# EAGLE library part MAX16936 (library X893)
http://www.maximintegrated.com/datasheet/index.mvp/id/8073
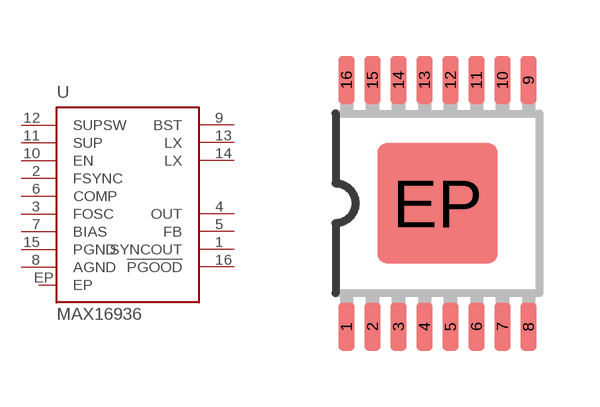
[diagram p191: symbol with the pads of TSSOP16-EP; footprint TSSOP16-EP]

Designator prefix U

## MAX16936  [TSSOP16-EP]
1  SYNCOUT
2  FSYNC  pas
3  FOSC  pas
4  OUT  pas
5  FB  pas
6  COMP  pas
7  BIAS  pas
8  AGND
9  BST  pas
10  EN  pas
11  SUP  pas
12  SUPSW  pas
13  LX  pas
14  LX  pas
15  PGND
16  !PGOOD
EP  EP  pas

## Footprint TSSOP16-EP (pad centres in mm)
TSOP16 thin small outline package
smd 0.4 x 1.2: 1 -2.275,-3.087; 2 -1.625,-3.087; 3 -0.975,-3.087; 4 -0.325,-3.087; 5 0.325,-3.087; 6 0.975,-3.087; 7 1.625,-3.087; 8 2.275,-3.087; 9 2.275,3.087; 10 1.625,3.087; 11 0.975,3.087; 12 0.325,3.087; 13 -0.325,3.087; 14 -0.975,3.087; 15 -1.625,3.087; 16 -2.275,3.087
smd 3 x 3: EP 0,0